# Altium footprint library inductor.PcbLib: 48 footprints (part 3 of 3)
Each footprint in its own frame and in the unit in brackets; x right, y up, seen from the top. Pads: shape width x height; smd on the part's side, far side on the other; paste and mask are expansions set on the pad; w line width, h text height; cw(c..) or ccw(c..) is an arc to the next point about the centre after c.
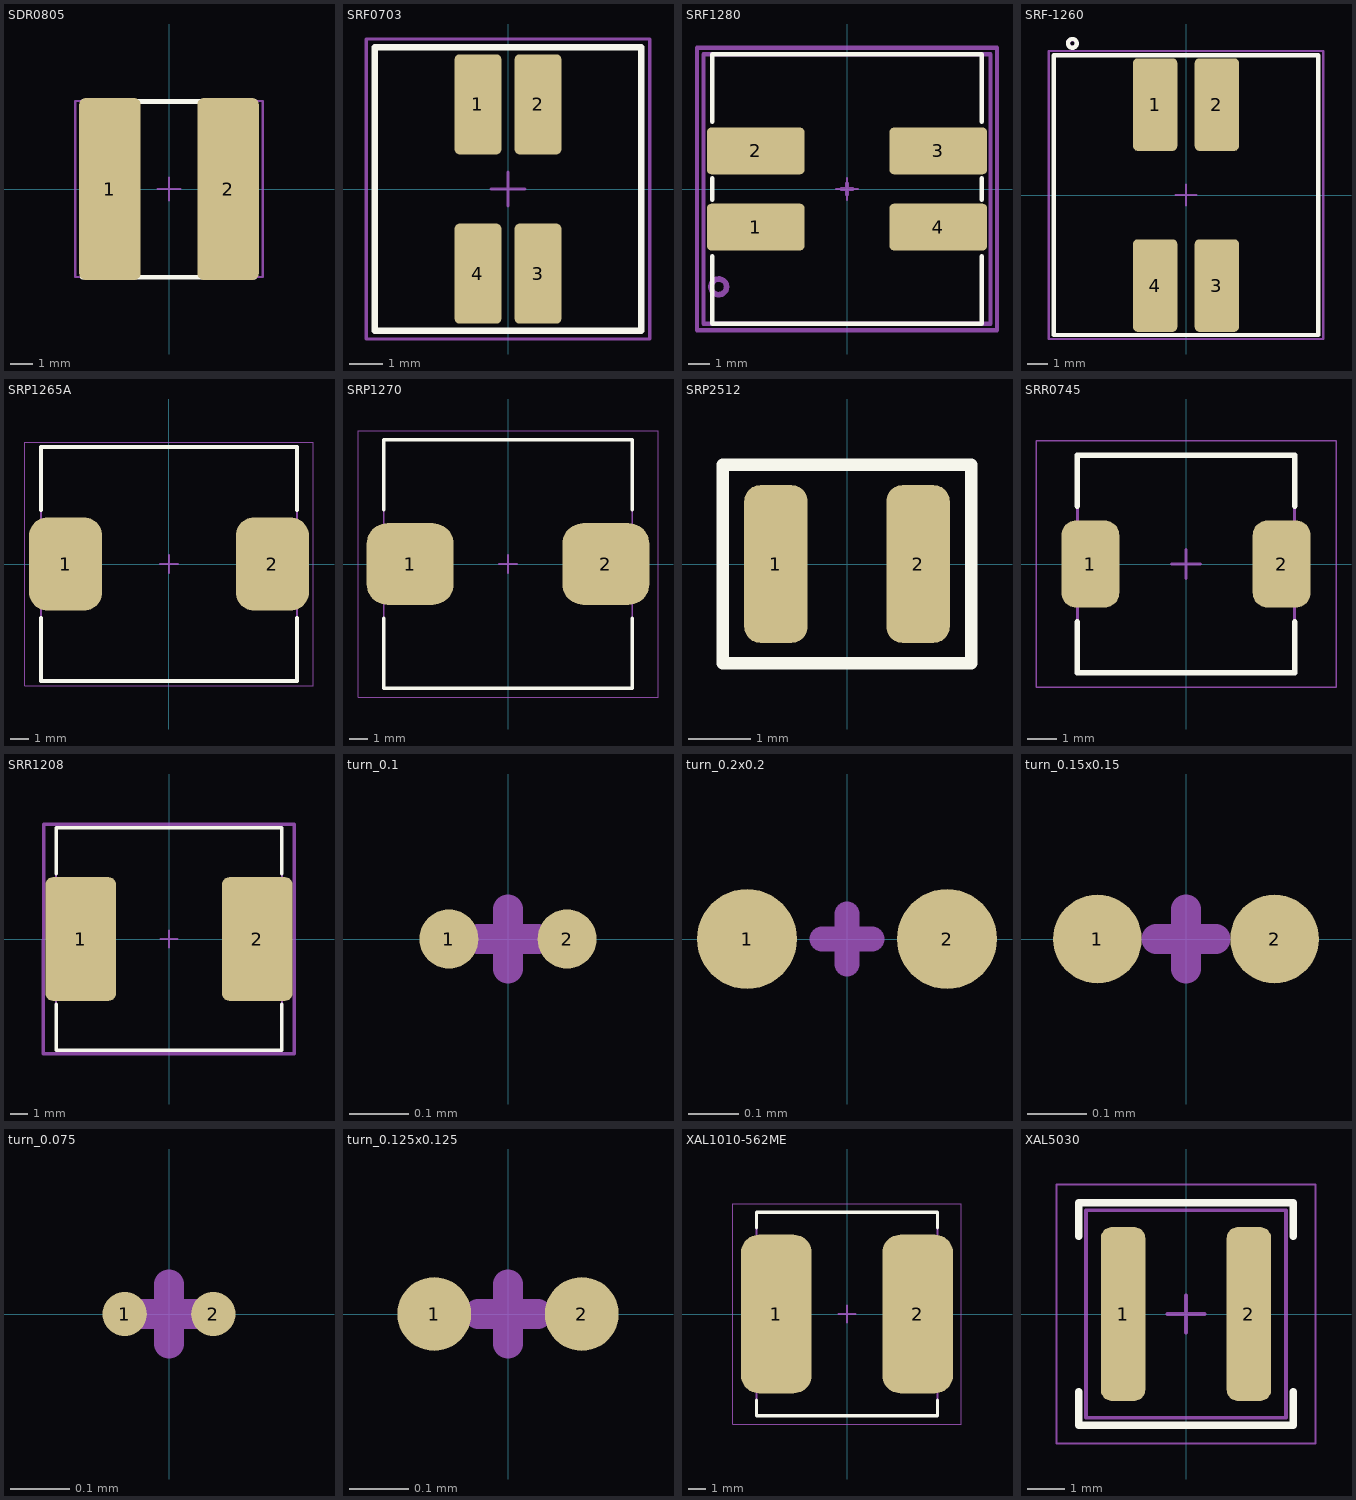
[diagram p2: the footprints below, top view; thin cyan lines are the x and y axes]

## SDR0805 [mm] "PC High Density"
height 7
pads (2):
  rrect20% 2.7x8 smd: 1(-2.6,0) 2(2.6,0)
Top Overlay:
  lines w0.2: -3.825,-3.875 3.775,-3.875 ; -3.8,3.85 3.8,3.85
Mechanical 13:
  lines w0.1: -4.125,-3.875 -4.125,3.875 4.125,3.875 4.125,-3.875 -4.125,-3.875
Mechanical 15:
  lines w0.05: -4.126,-3.875 4.125,-3.875 4.125,3.875 -4.11,3.875 ; -4.125,-3.875 -4.125,3.875
  lines w0.1: -0.5,0 0.5,0 ; 0,-0.5 0,0.5
3D body "User Library-SDR0805.step": height 5.05, standoff 0, extent -3.677,-3.75 3.677,3.75

## SRF0703 [mm] "INDUCT ARRAY 2 COIL 4.7UH SMD"
height 6
pads (4):
  rrect20% 1.4x3 smd: 1(-0.9,2.54) 2(0.9,2.54) 3(0.9,-2.54) 4(-0.9,-2.54)
Top Overlay:
  lines w0.2: -4,-4.25 -4,4.25 4,4.25 4,-4.25 -4,-4.25
M3_comm_top:
  text ".comment" at 0,0 h1
M5_asm_top:
  lines w0.1: -4,-4.25 -4,4.25 4,4.25 4,-4.25 -4,-4.25
  text ".Designator" at -0.675,4.525 h1
M7_courtyard_top:
  lines w0.1: -0.5,0 0.5,0 ; 0,-0.5 0,0.5 ; -4.25,-4.5 -4.25,4.5 4.25,4.5 4.25,-4.5 -4.25,-4.5
3D body "User Library-SRF0703-100M.STEP": height 3.55, standoff 0.1, extent -3.8,-3.8 3.8,3.8

## SRF1280 [mm] "IPC Medium Density"
height 6
pads (4):
  rrect20% 4.5x2.15 smd: 1(-4.2,-1.75) 2(-4.2,1.75) 3(4.2,1.75) 4(4.2,-1.75)
Top Overlay:
  lines w0.2: -6.2,-3.1 -6.2,-6.2 6.2,-6.2 6.2,-3.1 ; -6.2,-0.5 -6.2,0.5 ; -6.2,3.1 -6.2,6.2 6.2,6.2 6.2,3.1 ; 6.2,-0.5 6.2,0.5
M3_comm_top:
  text ".comment" at -0.9,-0.3 h1
M5_asm_top:
  circle w0.254: c-5.9,-4.5 r0.361
  lines w0.2: -6.6,-6.2 6.6,-6.2 6.6,6.2 -6.6,6.2 -6.6,-6.2
  text ".Designator" at -1.3,4.3 h1
M7_courtyard_top:
  lines w0.2: -0.25,0 0.25,0 ; 0,-0.25 0,0.25 ; -6.9,-6.5 -6.9,6.5 6.9,6.5 6.9,-6.5 -6.9,-6.5
Mechanical 13:
  lines w0.1: -6.6,-6.25 -6.6,6.25 6.6,6.25 6.6,-6.25 -6.6,-6.25
Mechanical 15:
  lines w0.05: -6.6,-6.25 -6.6,6.25 6.6,6.25 6.6,-6.25 -6.6,-6.25
  lines w0.1: -0.5,0 0.5,0 ; 0,-0.5 0,0.5
3D body "srf1280.stp": height 8, standoff 0, extent -6.25,-6.25 6.25,6.25

## SRF-1260 [mm] "SRF1260-4R7Y, SRF1260-6R8Y, INDUCT ARRAY 2 COIL 6.8UH SMD"
height 6
pads (4):
  rrect20% 2.15x4.5 smd: 1(-1.5,4.4) 2(1.5,4.4) 3(1.5,-4.4) 4(-1.5,-4.4)
Top Overlay:
  lines w0.2: -5.312,7.394 ccw(c-5.525,7.375) -5.311,7.375 ; -6.43,-6.8 -6.43,6.8 6.43,6.8 6.43,-6.8 -6.43,-6.8
M3_comm_top:
  text ".comment" at 0,0 h1
M5_asm_top:
  lines w0.1: -6.43,-6.8 6.43,-6.8 6.43,6.8 -6.43,6.8 -6.43,-6.8
  lines w0.2: -5.32,7.356 cw(c-5.525,7.375) -5.319,7.375
  text ".Designator" at -0.7,7.025 h1
M7_courtyard_top:
  lines w0.1: -0.5,0 0.5,0 ; 0,-0.5 0,0.5 ; -6.675,-7 -6.675,7 6.675,7 6.675,-7 -6.675,-7
3D body "srf1280.stp": height 8, standoff 0, extent -6.25,-6.25 6.25,6.25

## SRP1265A [mm] "14x12.8x6.4mm, IPC Medium Density"
height 6.4
pads (2):
  rrect50% 4x5.1 smd: 1(-5.65,0) 2(5.65,0)
Top Overlay:
  lines w0.2: -7,-2.95 -7,-6.4 7,-6.4 7,-2.95 ; -7,2.95 -7,6.4 7,6.4 7,2.95
Mechanical 13:
  lines w0.1: -7,-6.4 -7,6.4 7,6.4 7,-6.4 -7,-6.4
Mechanical 15:
  lines w0.05: -7.875,-6.65 -7.875,6.65 7.875,6.65 7.875,-6.65 -7.875,-6.65
  lines w0.1: -0.5,0 0.5,0 ; 0,-0.5 0,0.5
3D body "SRP1265A series.stp": height 6.31, standoff 0, extent -6.6,-6.1 6.3,6.4

## SRP1270 [mm] "SRP1270, IPC Low Density"
height 7
pads (2):
  rrect50% 4.8x4.5 smd: 1(-5.4,0) 2(5.4,0)
Top Overlay:
  lines w0.2: -6.85,-3 -6.85,-6.85 6.85,-6.85 6.85,-3 ; -6.85,3 -6.85,6.85 6.85,6.85 6.85,3
Mechanical 13:
  lines w0.1: -6.85,-6.85 -6.85,6.85 6.85,6.85 6.85,-6.85 -6.85,-6.85
Mechanical 15:
  lines w0.05: -8.275,-7.35 -8.275,7.35 8.275,7.35 8.275,-7.35 -8.275,-7.35
  lines w0.1: -0.5,0 0.5,0 ; 0,-0.5 0,0.5
3D body "User Library-SRP1270_2RMR.step": height 7, standoff 0, extent -6.85,-6.847 6.85,6.843

## SRP2512 [mm]
pads (2):
  rrect50% 1.02x2.54 smd: 1(-1.145,0) 2(1.145,0)
Top Overlay:
  lines w0.203: -2,-1.6 2,-1.6 2,1.6 -2,1.6 -2,-1.6
3D body: height 1.2, standoff 0, extent -1.3,-1.125 1.3,1.125

## SRR0745 [mm] "SRR0745, IPC Low Density"
height 4.5
pads (2):
  rrect50% 2x3 smd: 1(-3.3,0) 2(3.3,0)
Top Overlay:
  lines w0.2: -3.75,-2 -3.75,-3.75 3.75,-3.75 3.75,-2 ; -3.75,2 -3.75,3.75 3.75,3.75 3.75,2
Mechanical 13:
  lines w0.1: -3.75,-3.75 3.75,-3.75 3.75,3.75 -3.75,3.75 -3.75,-3.75
Mechanical 15:
  lines w0.05: -5.175,-4.25 5.175,-4.25 5.175,4.25 -5.175,4.25 -5.175,-4.25
  lines w0.1: -0.5,0 0.5,0 ; 0,-0.5 0,0.5
3D body "SRR0745A.STP": height 4.5, standoff 0.04, extent -3.575,-3.575 3.575,3.575

## SRR1208 [mm] "PC High Density"
height 7
pads (2):
  rrect20% 4x7 smd: 1(-5,0) 2(5,0)
Top Overlay:
  lines w0.2: -6.4,-3.7 -6.4,-6.3 6.4,-6.3 6.4,-3.7 ; -6.4,3.7 -6.4,6.3 6.4,6.3 6.4,3.7
M3_comm_top:
  text ".comment" at -0.9,-0.3 h1
M5_asm_top:
  lines w0.1: -6.4,-6.3 -6.4,6.3 6.4,6.3 6.4,-6.3 -6.4,-6.3
  text ".Designator" at -1,1.3 h1
M7_courtyard_top:
  lines w0.1: -0.5,0 0.5,0 ; 0,-0.5 0,0.5
  lines w0.2: -7.122,-6.5 -7.095,6.5 7.1,6.5 7.1,-6.5 -7.116,-6.5
3D body "User Library-SRR1208.step": height 8.51, standoff 0.02, extent -6.35,-6.35 6.35,6.35

## turn_0.1 [mm] "XAL1010-562 IPC Low Density"
height 10
pads (2):
  round 0.1 smd mask+0.002: 1(-0.1,0) 2(0.1,0)
Mechanical 15:
  lines w0.05: -0.05,0 0.05,0 ; 0,-0.05 0,0.05

## turn_0.2x0.2 [mm] "XAL1010-562 IPC Low Density"
height 10
pads (2):
  round 0.2 smd: 1(-0.2,0) 2(0.2,0)
Mechanical 15:
  lines w0.05: -0.05,0 0.05,0 ; 0,-0.05 0,0.05

## turn_0.15x0.15 [mm] "XAL1010-562 IPC Low Density"
height 10
pads (2):
  round 0.15 smd: 1(-0.15,0) 2(0.15,0)
Mechanical 15:
  lines w0.05: -0.05,0 0.05,0 ; 0,-0.05 0,0.05

## turn_0.075 [mm] "XAL1010-562 IPC Low Density"
height 10
pads (2):
  round 0.075 smd mask+0.002: 1(-0.075,0) 2(0.075,0)
Mechanical 15:
  lines w0.05: -0.05,0 0.05,0 ; 0,-0.05 0,0.05

## turn_0.125x0.125 [mm]
height 10
pads (2):
  round 0.125 smd: 1(-0.125,0) 2(0.125,0)
Mechanical 15:
  lines w0.05: -0.05,0 0.05,0 ; 0,-0.05 0,0.05

## XAL1010-562ME [mm] "XAL1010-562 IPC Low Density"
height 10
pads (2):
  rrect50% 4.1x9.2 smd: 1(-4.1,0) 2(4.1,0)
Top Overlay:
  lines w0.2: -5.25,-5 -5.25,-5.9 5.25,-5.9 5.25,-5 ; -5.25,5 -5.25,5.9 5.25,5.9 5.25,5
Mechanical 13:
  lines w0.1: -5.25,-5.9 -5.25,5.9 5.25,5.9 5.25,-5.9 -5.25,-5.9
Mechanical 15:
  lines w0.05: -6.625,-6.4 -6.625,6.4 6.625,6.4 6.625,-6.4 -6.625,-6.4
  lines w0.1: -0.5,0 0.5,0 ; 0,-0.5 0,0.5
3D body: height 10, standoff 0, extent -5.25,-5.9 5.25,5.9

## XAL5030 [mm] "XAL5030"
height 10
pads (2):
  rrect50% 1.2x4.7 smd: 1(-1.7,0) 2(1.7,0)
Top Overlay:
  lines w0.2: -2.9,-2.1 -2.9,-3 2.9,-3 2.9,-2.1 ; -2.9,2.1 -2.9,3 2.9,3 2.9,2.1
Mechanical 13:
  lines w0.1: -2.7,-2.8 2.7,-2.8 2.7,2.8 -2.7,2.8 -2.7,-2.8
Mechanical 15:
  lines w0.05: -3.5,-3.5 3.5,-3.5 3.5,3.5 -3.5,3.5 -3.5,-3.5
  lines w0.1: -0.5,0 0.5,0 ; 0,-0.5 0,0.5
3D body "Coilcraft-XAL5030.step": height 3.1, standoff 0, extent -2.74,-2.84 2.74,2.84